# EAGLE library part MIC2954BM (library my_mixed)
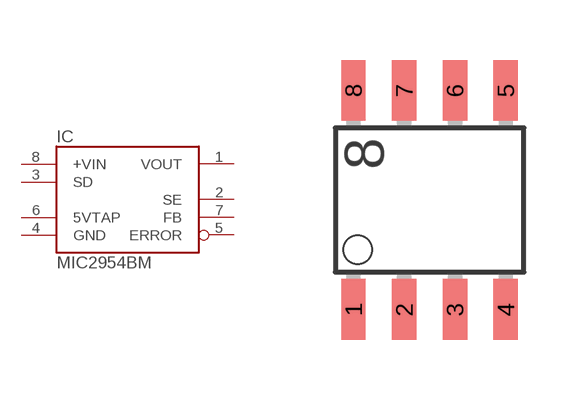
[diagram p10: symbol with the pads of SO8; footprint SO8]

Designator prefix IC

## MIC2954BM  [SO8]
1  VOUT  sup
2  SE  in
3  SD  in
4  GND  pwr
5  ERROR  out
6  5VTAP  out
7  FB  in
8  +VIN  pwr

## Footprint SO8 (pad centres in mm)
smd 0.61 x 1.524: 1 -1.905,-2.743; 2 -0.635,-2.743; 3 0.635,-2.743; 4 1.905,-2.743; 5 1.905,2.743; 6 0.635,2.743; 7 -0.635,2.743; 8 -1.905,2.743